# EAGLE library part ALEXIOS_SN74ACT1071 (library CFT-PB0-revB)
10-BIT BUS-TERMINATION ARRAY WITH BUS-HOLD FUNCTION Datasheet: http://www.ti.com/lit/ds/scas192/scas192.pdf
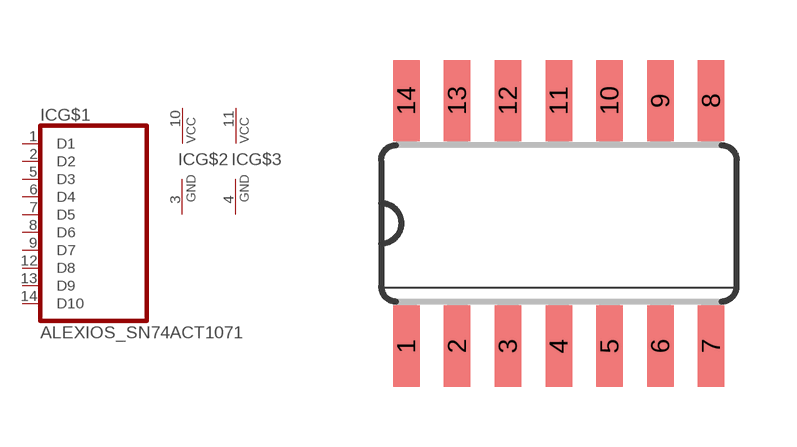
[diagram p7: symbol with the pads of ALEXIOS_SO14; footprint ALEXIOS_SO14]

Designator prefix IC; gates G$1=ALEXIOS_SN74ACT1071 G$2=ALEXIOS_PWRN G$3=ALEXIOS_PWRN

## ALEXIOS_SN74ACT1071D  [ALEXIOS_SO14]
1  G$1:D1  in
2  G$1:D2  in
3  G$2:GND  pwr
4  G$3:GND  pwr
5  G$1:D3  in
6  G$1:D4  in
7  G$1:D5  in
8  G$1:D6  in
9  G$1:D7  in
10  G$2:VCC  pwr
11  G$3:VCC  pwr
12  G$1:D8  in
13  G$1:D9  in
14  G$1:D10  in

## Footprint ALEXIOS_SO14 (pad centres in mm)
Small Outline package 150 mil
smd 0.66 x 2.032: 1 -3.81,-3.073; 2 -2.54,-3.073; 3 -1.27,-3.073; 4 0,-3.073; 5 1.27,-3.073; 6 2.54,-3.073; 7 3.81,-3.073; 8 3.81,3.073; 9 2.54,3.073; 10 1.27,3.073; 11 0,3.073; 12 -1.27,3.073; 13 -2.54,3.073; 14 -3.81,3.073